# EAGLE library part AD8367 (library Mine)
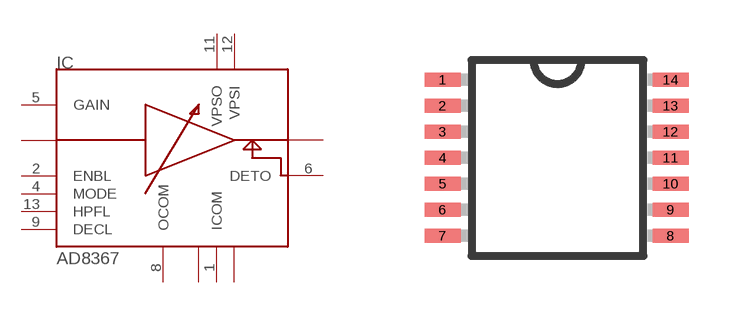
[diagram p49: symbol with the pads of TSSOP14; footprint TSSOP14]

Designator prefix IC

## AD8367  [TSSOP14]
1  ICOM  pwr
2  ENBL  in
3  INPT  in
4  MODE  in
5  GAIN  in
6  DETO  out
7  ICOM1  pwr
8  OCOM  in
9  DECL
10  VOUT  out
11  VPSO  pwr
12  VPSI  pwr
13  HPFL  in
14  ICOM2  pwr

## Footprint TSSOP14 (pad centres in mm)
14-Lead Thin Shrink Small Outline Package [TSSOP] Source: Analog Devices .. 780914713ADD8704_0.pdf
smd 0.9 x 0.35: 1 -2.875,1.95; 2 -2.875,1.3; 3 -2.875,0.65; 4 -2.875,0; 5 -2.875,-0.65; 6 -2.875,-1.3; 7 -2.875,-1.95; 8 2.825,-1.95; 9 2.825,-1.3; 10 2.825,-0.65; 11 2.825,0; 12 2.825,0.65; 13 2.825,1.3; 14 2.825,1.95